# Altium schematic symbol library ICs.SchLib: 3 symbols
Pins are listed as number, name and electrical type; pins without a type are passive.

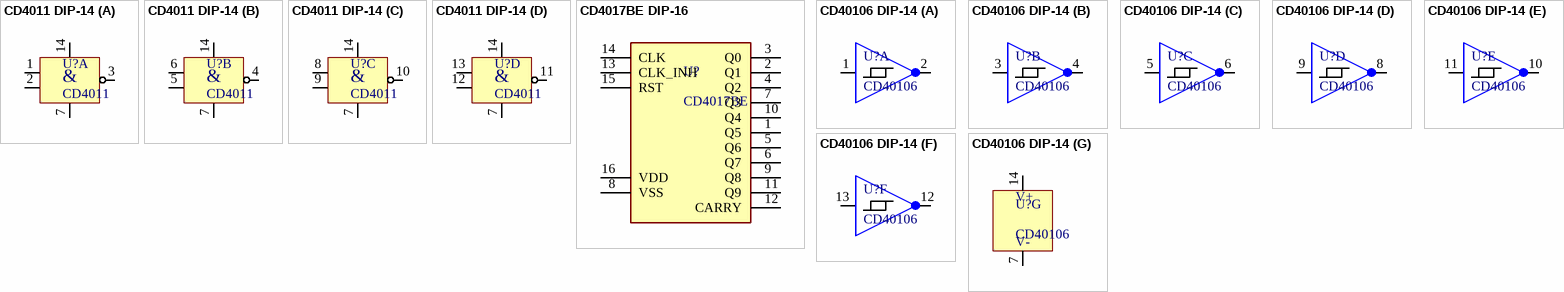
[diagram p0: symbols CD4011 DIP-14 to CD40106 DIP-14]

## CD4011 DIP-14
designator U?, comment CD4011
CD4011 quad NAND Gate DIP-14 package; Type: NAND Gate; Package Type: THT; Package: DIP-14
footprint DIP-14 (DIP-14 THT package)
footprint DIP-14 socket (Socket for DIP-14 ICs)
part A pins: 1, 2, 3, 7, 14
part B pins: 4, 5, 6, 7, 14
part C pins: 7, 8, 9, 10, 14
part D pins: 7, 11, 12, 13, 14
part A text: &
part B text: &
part C text: &
part D text: &

## CD4017BE DIP-16
designator U?, comment CD4017BE
CD4017BE CMOS Decade Counter DIP-16 Package; Type: Counter; Package Type: THT; Package: DIP-16
footprint DIP-16 (DIP-16 THT package)
footprint DIP-16 socket (Socket for DIP-16 ICs)
pins: 1 Q5, 2 Q1, 3 Q0, 4 Q2, 5 Q6, 6 Q7, 7 Q3, 8 VSS, 9 Q8, 10 Q4, 11 Q9, 12 CARRY, 13 CLK_INH, 14 CLK, 15 RST, 16 VDD

## CD40106 DIP-14
designator U?, comment CD40106
CD40106 Hex Schmitt Trigger Inverter DIP-14 Package; Type: Schmitt Trigger; Package Type: THT; Package: DIP-14
footprint DIP-14 (DIP-14 THT package)
footprint DIP-14 socket (Socket for DIP-14 ICs)
part A pins: 1, 2
part B pins: 3, 4
part C pins: 5, 6
part D pins: 8, 9
part E pins: 10, 11
part F pins: 12, 13
part G pins: 7, 14
part G text: V+; V-